# Altium schematic symbol library Sensor_Tranduser_Pcb.SchLib: 2 symbols
Pins are listed as number, name and electrical type; pins without a type are passive.

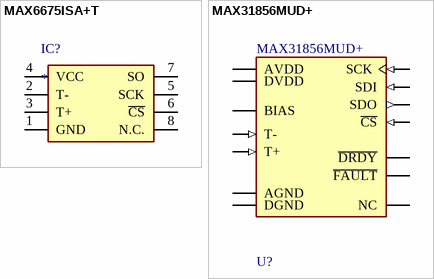
[diagram p0: symbols MAX6675ISA+T to MAX31856MUD+]

## MAX6675ISA+T
designator IC?
Integrated Circuit; Manufacturer_Name: Analog Devices; Manufacturer_Part_Number: MAX6675ISA+T; Description: Sensor Interface Cold-Junction-Compensated K-Thermocouple-to-Digital Converter (0 C to +1024 C); Datasheet Link: https://datasheets.maximintegrated.com/en/ds/MAX6675.pdf; Height: 1.75mm; Mouser Part Number: 700-MAX6675ISAT; Mouser Price/Stock: https://www.mouser.co.uk/ProductDetail/Analog-Devices-Maxim-Integrated/MAX6675ISA%2bT?qs=1THa7WoU59FV%2FT3S8QjZ%252Bg%3D%3D; Arrow Part Number: MAX6675ISA+T; Arrow Price/Stock: https://www.arrow.com/en/products/max6675isat/maxim-integrated?region=nac
footprint SO8
pins: 1 GND, 2 T-, 3 T+, 4 VCC, 5 SCK, 6 ~{CS}, 7 SO, 8 N.C.

## MAX31856MUD+
designator U?
IC CONV THERMOCOUPLE 14TSSOP; Operating Supply Current: 1.2mA; Min Supply Voltage: 3V; Max Supply Voltage: 3.6V; Output Type: Digital; Interface: SPI; Min Operating Temperature: -55°C; Max Operating Temperature: 125°C; Case/Package: TSSOP; Mount: Surface Mount; Packaging: Rail/Tube; Number of Pins: 14
footprint FP-U14-2-IPC_A
footprint FP-U14-2-IPC_B
footprint FP-U14-2-IPC_C
footprint FP-U14-2-MFG
pins: 1 AGND (power), 2 BIAS, 3 T- (in), 4 T+ (in), 5 AVDD (power), 6 NC, 7 ~{DRDY}, 8 DVDD (power), 9 ~{CS} (in), 10 SCK (in), 11 SDO (out), 12 SDI (in), 13 ~{FAULT}, 14 DGND (power)